# Altium schematic symbol library Switching_Circuit_Components.SCHLIB: 5 symbols
Pins are listed as number, name and electrical type; pins without a type are passive.

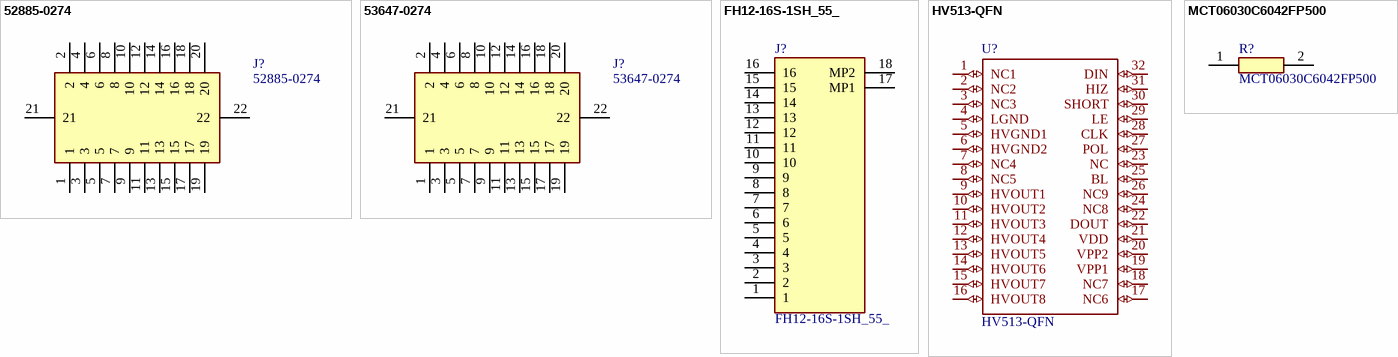
[diagram p0: symbols 52885-0274 to MCT06030C6042FP500]

## 52885-0274
designator J?
Connector; Manufacturer_Name: Molex; Datasheet Link: https://www.molex.com/webdocs/datasheets/pdf/en-us/0528850274_PCB_RECEPTACLES.pdf; Height: 4mm; Manufacturer_Part_Number: 52885-0274; Mouser Part Number: 538-52885-0274; Mouser Price/Stock: https://www.mouser.co.uk/ProductDetail/Molex/52885-0274?qs=%252BPJ3Ll1xQNYiQig4hWY5jQ%3D%3D
footprint 528850274
pins: 1, 2, 3, 4, 5, 6, 7, 8, 9, 10, 11, 12, 13, 14, 15, 16, 17, 18, 19, 20, 21, 22

## 53647-0274
designator J?
Connector; Manufacturer_Name: Molex; Datasheet Link: https://www.molex.com/pdm_docs/sd/536470274_sd.pdf; Height: 7mm; Manufacturer_Part_Number: 53647-0274; Mouser Part Number: 538-53647-0274; Mouser Price/Stock: https://www.mouser.co.uk/ProductDetail/Molex/53647-0274?qs=8nk6kXN3TSGT9To7JpUGHA%3D%3D
footprint 536470274
pins: 1, 2, 3, 4, 5, 6, 7, 8, 9, 10, 11, 12, 13, 14, 15, 16, 17, 18, 19, 20, 21, 22

## FH12-16S-1SH_55_
designator J?
Connector; Manufacturer_Name: Hirose; Manufacturer_Part_Number: FH12-16S-1SH(55); Datasheet Link: https://www.hirose.com/en/product/document?clcode=CL0586-0536-8-55&productname=FH12-16S-1SH(55)&series=FH12&documenttype=2DDrawing&lang=en&documentid=0000987749; Height: 2.2mm; Mouser Part Number: 798-FH12-16S-1SH55; Mouser Price/Stock: https://www.mouser.co.uk/ProductDetail/Hirose-Connector/FH12-16S-1SH55?qs=Ux3WWAnHpjBc3pYMMfcXYg%3D%3D; Arrow Part Number: FH12-16S-1SH(55); Arrow Price/Stock: https://www.arrow.com/en/products/fh12-16s-1sh-55/hirose-electric
footprint FH1216S1SH55
pins: 1, 2, 3, 4, 5, 6, 7, 8, 9, 10, 11, 12, 13, 14, 15, 16, 17 MP1, 18 MP2

## HV513-QFN
designator U?
footprint HV513-QFN
pins: 1 NC1 (io), 2 NC2 (io), 3 NC3 (io), 4 LGND (io), 5 HVGND1 (io), 6 HVGND2 (io), 7 NC4 (io), 8 NC5 (io), 9 HVOUT1 (io), 10 HVOUT2 (io), 11 HVOUT3 (io), 12 HVOUT4 (io), 13 HVOUT5 (io), 14 HVOUT6 (io), 15 HVOUT7 (io), 16 HVOUT8 (io), 17 NC6 (io), 18 NC7 (io), 19 VPP1 (io), 20 VPP2 (io), 21 VDD (io), 22 DOUT (io), 23 NC (io), 24 NC8 (io), 25 BL (io), 26 NC9 (io), 27 POL (io), 28 CLK (io), 29 LE (io), 30 SHORT (io), 31 HIZ (io), 32 DIN (io)

## MCT06030C6042FP500
designator R?
Resistor; Manufacturer_Name: Vishay; Datasheet Link: http://www.vishay.com/docs/28705/mcx0x0xpro.pdf; Height: 0.55mm; Manufacturer_Part_Number: MCT06030C6042FP500
footprint RESC1608X55N
pins: 1, 2